# EAGLE library part AUREL_AC/RX2-CS (library comp_wirelessnode)
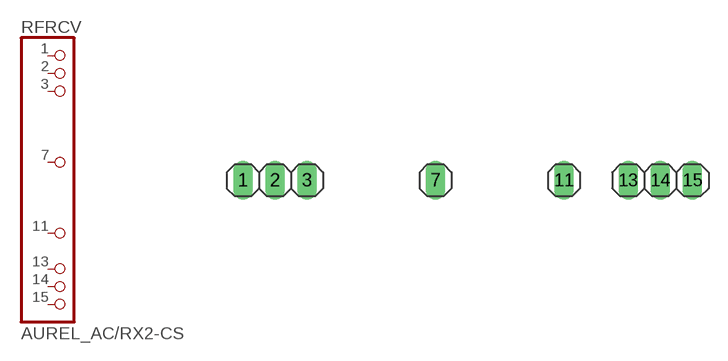
[diagram p7: symbol with the pads of RF_ASK_CONN; footprint RF_ASK_CONN]

Designator prefix RFRCV

## AUREL_AC/RX2-CS  [RF_ASK_CONN]
1  1  pas
2  2  pas
3  3  pas
7  7  pas
11  11  pas
13  13  pas
14  14  pas
15  15  pas

## Footprint RF_ASK_CONN (pad centres in mm)
drill 1.016 long: 1 -17.78,0; 2 -15.24,0; 3 -12.7,0; 7 -2.54,0; 11 7.62,0; 13 12.7,0; 14 15.24,0; 15 17.78,0